# EAGLE library part EC2 (library relay board)
EC2 is miniature signal relay Minimal board space is consumed with either a through-hole or surface mount configuration. Datasheet https://content.kemet.com/datasheets/KEM_R7002_EC2_EE2.pdf
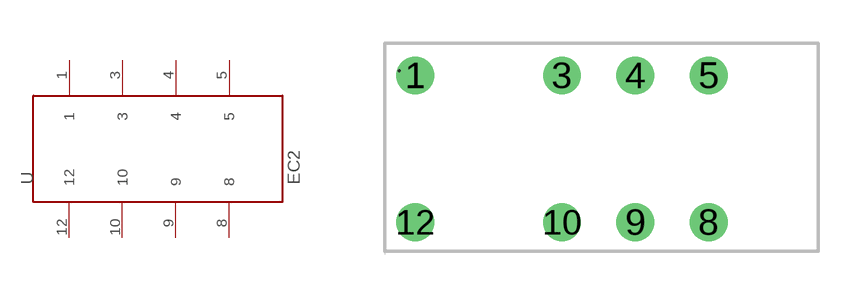
[diagram p0: symbol with the pads of EC2-5SNU; footprint EC2-5SNU]

Designator prefix -

## EC2  [EC2-5SNU]
1  1
3  3
4  4
5  5
8  8
9  9
10  10
12  12

## Footprint EC2-5SNU (pad centres in mm)
drill 0.8: 1 1.05,6.19; 3 6.13,6.19; 4 8.67,6.19; 5 11.21,6.19; 8 11.21,1.11; 9 8.67,1.11; 10 6.13,1.11; 12 1.05,1.11